# EAGLE library part SIC769 (library SIC769CD)
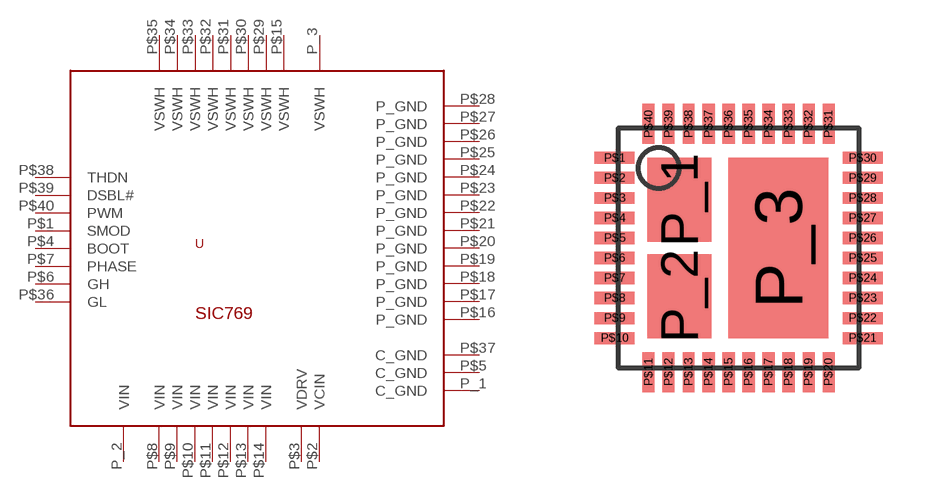
[diagram p0: symbol with the pads of MLP66-40; footprint MLP66-40]

Designator prefix -

## SIC769  [MLP66-40]
P$1  SMOD
P$2  VCIN
P$3  VDRV
P$4  BOOT
P$5  C_GND
P$6  GH
P$7  PHASE
P$8  VIN
P$9  VIN
P$10  VIN
P$11  VIN
P$12  VIN
P$13  VIN
P$14  VIN
P$15  VSWH
P$16  P_GND
P$17  P_GND
P$18  P_GND
P$19  P_GND
P$20  P_GND
P$21  P_GND
P$22  P_GND
P$23  P_GND
P$24  P_GND
P$25  P_GND
P$26  P_GND
P$27  P_GND
P$28  P_GND
P$29  VSWH
P$30  VSWH
P$31  VSWH
P$32  VSWH
P$33  VSWH
P$34  VSWH
P$35  VSWH
P$36  GL
P$37  C_GND
P$38  THDN
P$39  DSBL#
P$40  PWM
P_1  C_GND
P_2  VIN
P_3  VSWH

## Footprint MLP66-40 (pad centres in mm)
smd 1 x 0.3: P$1 -3.1,2.25; P$2 -3.1,1.75; P$3 -3.1,1.25; P$4 -3.1,0.75; P$5 -3.1,0.25; P$6 -3.1,-0.25; P$7 -3.1,-0.75; P$8 -3.1,-1.25; P$9 -3.1,-1.75; P$10 -3.1,-2.25; P$21 3.1,-2.25; P$22 3.1,-1.75; P$23 3.1,-1.25; P$24 3.1,-0.75; P$25 3.1,-0.25; P$26 3.1,0.25; P$27 3.1,0.75; P$28 3.1,1.25; P$29 3.1,1.75; P$30 3.1,2.25
smd 0.3 x 1: P$11 -2.25,-3.1; P$12 -1.75,-3.1; P$13 -1.25,-3.1; P$14 -0.75,-3.1; P$15 -0.25,-3.1; P$16 0.25,-3.1; P$17 0.75,-3.1; P$18 1.25,-3.1; P$19 1.75,-3.1; P$20 2.25,-3.1; P$31 2.25,3.1; P$32 1.75,3.1; P$33 1.25,3.1; P$34 0.75,3.1; P$35 0.25,3.1; P$36 -0.25,3.1; P$37 -0.75,3.1; P$38 -1.25,3.1; P$39 -1.75,3.1; P$40 -2.25,3.1
smd 1.6 x 2.1: P_1 -1.48,1.2; P_2 -1.48,-1.2
smd 2.5 x 4.5: P_3 0.99,0